# EAGLE library part EPSON_S1V50300 (library MyLibrary)
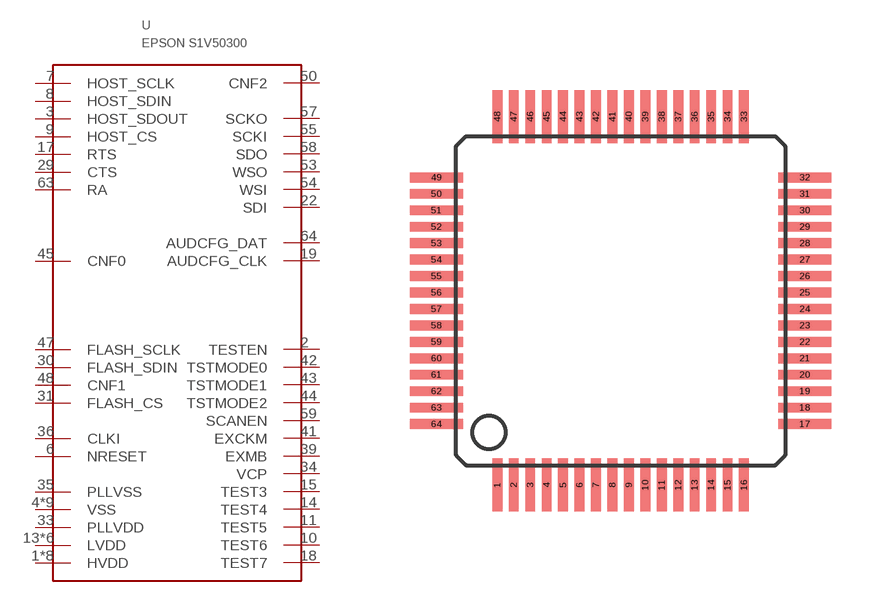
[diagram p7: symbol with the pads of QFP13-64; footprint QFP13-64]

Designator prefix -

## EPSON_S1V50300  [QFP13-64]
1  HVDD
2  TESTEN
3  HOST_SDOUT
4  VSS
5  VSS
6  NRESET
7  HOST_SCLK
8  HOST_SDIN
9  HOST_CS
10  TEST6
11  TEST5
12  HVDD
13  LVDD
14  TEST4
15  TEST3
16  VSS
17  RTS
18  TEST7
19  AUDCFG_CLK
20  HVDD
21  VSS
22  SDI
23  LVDD
27  HVDD
28  LVDD
29  CTS
30  FLASH_SDIN
31  FLASH_CS
32  VSS
33  PLLVDD
34  VCP
35  PLLVSS
36  CLKI
37  LVDD
38  HVDD
39  EXMB
40  VSS
41  EXCKM
42  TSTMODE0
43  TSTMODE1
44  TSTMODE2
45  CNF0
46  HVDD
47  FLASH_SCLK
48  CNF1
49  VSS
50  CNF2
51  LVDD
52  HVDD
53  WSO
54  WSI
55  SCKI
56  VSS
57  SCKO
58  SDO
59  SCANEN
60  LVDD
61  VSS
62  HVDD
63  RA
64  AUDCFG_DAT

## Footprint QFP13-64 (pad centres in mm)
smd 0.3 x 1.6: 1 -3.75,-5.6; 2 -3.25,-5.6; 3 -2.75,-5.6; 4 -2.25,-5.6; 5 -1.75,-5.6; 6 -1.25,-5.6; 7 -0.75,-5.6; 8 -0.25,-5.6; 9 0.25,-5.6; 10 0.75,-5.6; 11 1.25,-5.6; 12 1.75,-5.6; 13 2.25,-5.6; 14 2.75,-5.6; 15 3.25,-5.6; 16 3.75,-5.6; 33 3.75,5.6; 34 3.25,5.6; 35 2.75,5.6; 36 2.25,5.6; 37 1.75,5.6; 38 1.25,5.6; 39 0.75,5.6; 40 0.25,5.6; 41 -0.25,5.6; 42 -0.75,5.6; 43 -1.25,5.6; 44 -1.75,5.6; 45 -2.25,5.6; 46 -2.75,5.6; 47 -3.25,5.6; 48 -3.75,5.6
smd 1.6 x 0.3: 17 5.6,-3.75; 18 5.6,-3.25; 19 5.6,-2.75; 20 5.6,-2.25; 21 5.6,-1.75; 22 5.6,-1.25; 23 5.6,-0.75; 24 5.6,-0.25; 25 5.6,0.25; 26 5.6,0.75; 27 5.6,1.25; 28 5.6,1.75; 29 5.6,2.25; 30 5.6,2.75; 31 5.6,3.25; 32 5.6,3.75; 49 -5.6,3.75; 50 -5.6,3.25; 51 -5.6,2.75; 52 -5.6,2.25; 53 -5.6,1.75; 54 -5.6,1.25; 55 -5.6,0.75; 56 -5.6,0.25; 57 -5.6,-0.25; 58 -5.6,-0.75; 59 -5.6,-1.25; 60 -5.6,-1.75; 61 -5.6,-2.25; 62 -5.6,-2.75; 63 -5.6,-3.25; 64 -5.6,-3.75